# Altium schematic symbol library SCH - LDO - TPS7A49.SCHLIB: 1 symbol
Pins are listed as number, name and electrical type; pins without a type are passive.

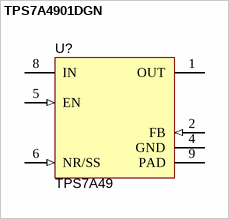
[diagram p0: symbol TPS7A4901DGN]

## TPS7A4901DGN
designator U?, comment TPS7A49
+36V, +150mA, Ultralow-Noise, Positive LINEAR REGULATOR, DGN0008D; MPN: TPS7A4901DGN; CompType: IC; MF: Texas Instruments; PackageReference: DGN0008D; MountType: SMT; ComponentLink1Description: Datasheet Link; ComponentLink1URL: http://www.ti.com/lit/ds/symlink/tps7a4901.pdf; Supplier 1: Digi-Key; Supplier Part Number 1: 296-27751-6-ND; Supplier 2: Mouser; Supplier Part Number 2: 595-TPS7A4901DGNR; Supplier 3: Fanell; Supplier Part Number 3: 3008004
footprint DGN0008D_N
footprint DGN0008D_M
footprint DGN0008D_L
pins: 1 OUT (power), 2 FB (in), 3 NC hidden, 4 GND (power), 5 EN (in), 6 NR/SS (in), 7 DNC hidden, 8 IN (power), 9 PAD (power)